# EAGLE library part LDC1101 (library borkedlabs-dataconversion)
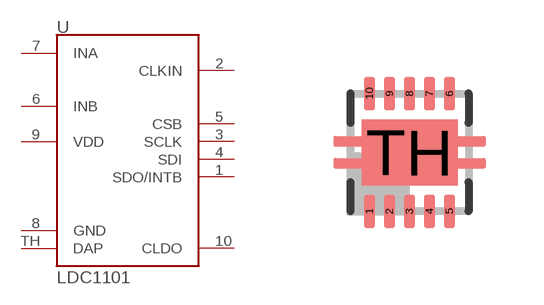
[diagram p4: symbol with the pads of DRC-S-PVSON-N10; footprint DRC-S-PVSON-N10]

Designator prefix U

## LDC1101 (MPN: LDC1101; PACKAGE: VSON-10)  [DRC-S-PVSON-N10]
1  SDO/INTB
2  CLKIN
3  SCLK
4  SDI
5  CSB
6  INB
7  INA
8  GND
9  VDD
10  CLDO
TH  DAP

## Footprint DRC-S-PVSON-N10 (pad centres in mm)
DRK (S-PDSO-N10) Source: www.ti.com .. bq27010.pdf changed 2011-11-09
smd 0.28 x 0.85: 1 -1,-1.475; 2 -0.5,-1.475; 3 0,-1.475; 4 0.5,-1.475; 5 1,-1.475; 6 1,1.475; 7 0.5,1.475; 8 0,1.475; 9 -0.5,1.475; 10 -1,1.475
smd 2.4 x 1.65: TH 0,0